# EAGLE library part 23PINPCBJOINER (library LMA)
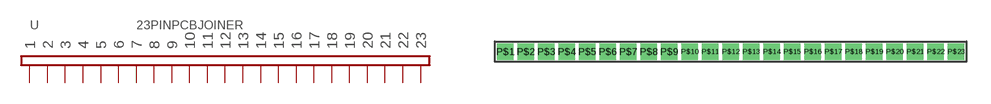
[diagram p0: symbol with the pads of 23PINPCBJOINER; footprint 23PINPCBJOINER]

Designator prefix -

## 23PINPCBJOINER  [23PINPCBJOINER]
P$1  1
P$2  2
P$3  3
P$4  4
P$5  5
P$6  6
P$7  7
P$8  8
P$9  9
P$10  10
P$11  11
P$12  12
P$13  13
P$14  14
P$15  15
P$16  16
P$17  17
P$18  18
P$19  19
P$20  20
P$21  21
P$22  22
P$23  23

## Footprint 23PINPCBJOINER (pad centres in mm)
drill 0.5 pad 0.813 square: P$1 -13.335,0; P$2 -12.065,0; P$3 -10.795,0; P$4 -9.525,0; P$5 -8.255,0; P$6 -6.985,0; P$7 -5.715,0; P$8 -4.445,0; P$9 -3.175,0; P$10 -1.905,0; P$11 -0.635,0; P$12 0.635,0; P$13 1.905,0; P$14 3.175,0; P$15 4.445,0; P$16 5.715,0; P$17 6.985,0; P$18 8.255,0; P$19 9.525,0; P$20 10.795,0; P$21 12.065,0; P$22 13.335,0; P$23 14.605,0